# Altium footprint library Big Easy Driver.PcbLib: 1 footprints
Each footprint in its own frame and in the unit in brackets; x right, y up, seen from the top. Pads: shape width x height; smd on the part's side, far side on the other; paste and mask are expansions set on the pad; w line width, h text height; cw(c..) or ccw(c..) is an arc to the next point about the centre after c.
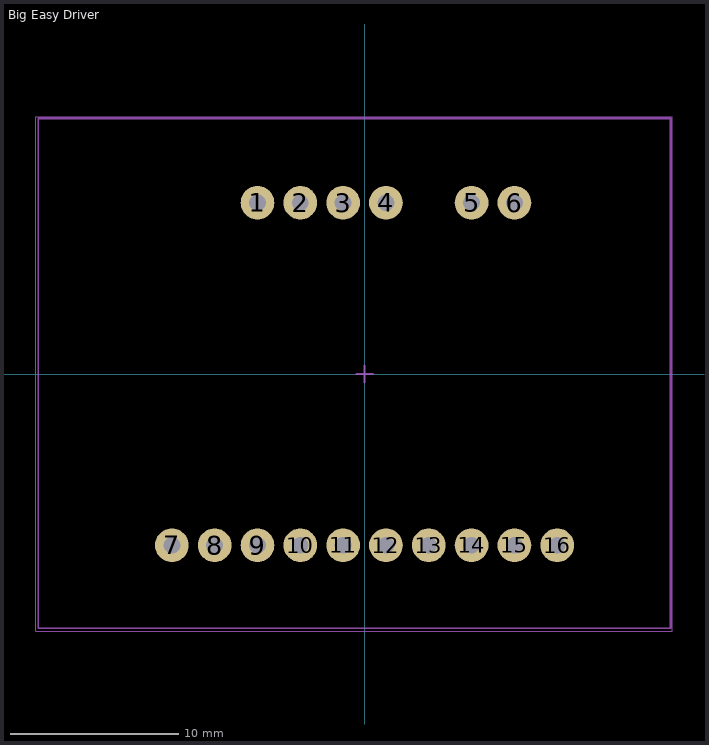
[diagram p0: the footprint, top view; thin cyan lines are the x and y axes]

## Big Easy Driver [mm]
pads (16):
  round 2 hole 1: 1(-6.35,10.16) 2(-3.81,10.16) 3(-1.27,10.16) 4(1.27,10.16) 5(6.35,10.16) 6(8.89,10.16) 7(-11.43,-10.16) 8(-8.89,-10.16) 9(-6.35,-10.16) 10(-3.81,-10.16) 11(-1.27,-10.16) 12(1.27,-10.16) 13(3.81,-10.16) 14(6.35,-10.16) 15(8.89,-10.16) 16(11.43,-10.16)
Mechanical 1:
  circle w0.1: c11.43,-10.16 r0.5
  circle w0.1: c8.89,-10.16 r0.5
  circle w0.1: c6.35,-10.16 r0.5
  circle w0.1: c3.81,-10.16 r0.5
  circle w0.1: c1.27,-10.16 r0.5
  circle w0.1: c-1.27,-10.16 r0.5
  circle w0.1: c-3.81,-10.16 r0.5
  circle w0.1: c-6.35,-10.16 r0.5
  circle w0.1: c-8.89,-10.16 r0.5
  circle w0.1: c-11.43,-10.16 r0.5
  circle w0.1: c8.89,10.16 r0.5
  circle w0.1: c6.35,10.16 r0.5
  circle w0.1: c1.27,10.16 r0.5
  circle w0.1: c-1.27,10.16 r0.5
  circle w0.1: c-3.81,10.16 r0.5
  circle w0.1: c-6.35,10.16 r0.5
  lines w0.1: -19.35,-15.09 -19.35,15.16 18.15,15.16 18.15,-15.09 -19.35,-15.09
  text ".Designator" at -3.294,-0.269 h0.65
  text "EN" at -11.971,-9.215 h0.65
  text "M1" at -9.323,-9.215 h0.65
  text "M2" at -6.891,-9.215 h0.65
  text "M3" at -4.351,-9.215 h0.65
  text "RS" at -1.811,-9.215 h0.65
  text "SL" at 0.729,-9.215 h0.65
  text "VCC" at 2.944,-9.215 h0.65
  text "GND" at 5.484,-9.215 h0.65
  text "ST" at 8.349,-9.215 h0.65
  text "DR" at 10.889,-9.215 h0.65
  text "GND" at 5.484,8.565 h0.65
  text "M+" at 8.349,8.565 h0.65
  text "A" at -6.567,8.565 h0.65
  text "A" at -4.027,8.565 h0.65
  text "B" at -1.487,8.565 h0.65
  text "B" at 1.053,8.565 h0.65
Mechanical 2:
  lines w0.05: -19.5,-15.25 -19.5,15.25 18.25,15.25 18.25,-15.25 -19.5,-15.25
  lines w0.1: -0.5,0 0.5,0 ; 0,-0.5 0,0.5
3D body "Big Easy Driver stp.step": height 9.6, standoff 0, extent -19.235,-15 17.965,15